# EAGLE library part 691701530011B (library Terminal_Blocks_Connectors_rev15e)
WR-TBL Serie 7015 – 5.08mm Open Horizontal PCB Header, 11 Pins=>Code : Con_TBL_Pluggable_5.08_PCB_THR_691701530011B <http://katalog.we-online.de/media/images/eican/Con_TBL_Pluggable_5.08_PCB_THR_6917015300xxB_pf2.jpg> Details see: http://katalog.we-online.de/en/em/691_701_530_0xxB Created 2014-06-25, Karrer Zheng 2014 (C) Würth Elektronik
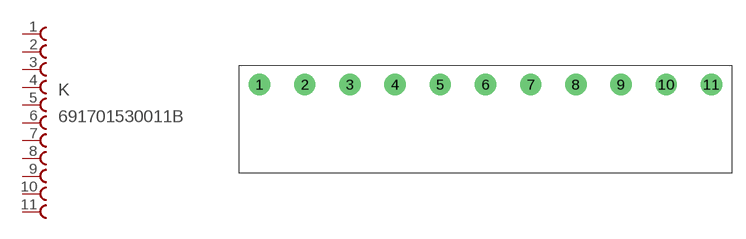
[diagram p379: symbol with the pads of 691701530011B; footprint 691701530011B]

Designator prefix K

## 691701530011B  [691701530011B]
1  1  pas
2  2  pas
3  3  pas
4  4  pas
5  5  pas
6  6  pas
7  7  pas
8  8  pas
9  9  pas
10  10  pas
11  11  pas

## Footprint 691701530011B (pad centres in mm)
WR-TBL Serie 7015 – 5.08mm Open Horizontal PCB Header, 11 Pins
drill 1.6: 1 -25.4,0; 2 -20.32,0; 3 -15.24,0; 4 -10.16,0; 5 -5.08,0; 6 0,0; 7 5.08,0; 8 10.16,0; 9 15.24,0; 10 20.32,0; 11 25.4,0